# EAGLE library part CY7C1069AV33Z (library memory-sram)
2M x 8 Static RAM Source: CYPRESS cy7c1069av33_8.pdf
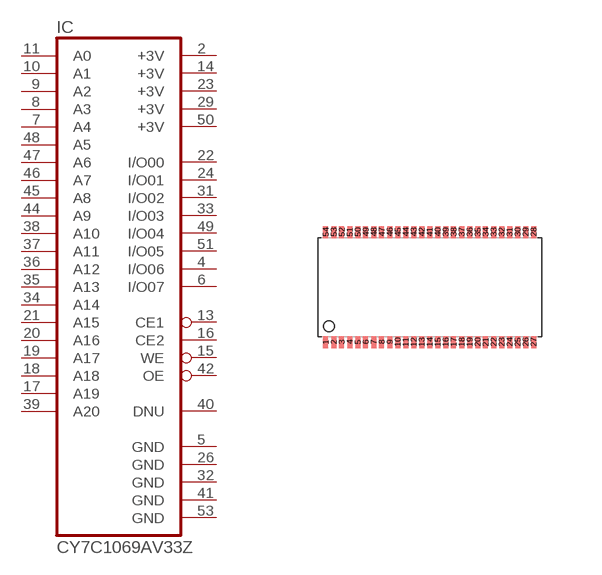
[diagram p4: symbol with the pads of TSOPII-54; footprint TSOPII-54]

Designator prefix IC

## CY7C1069AV33Z  [TSOPII-54]
2  +3V  pwr
4  I/O06
5  GND  pwr
6  I/O07
7  A4  in
8  A3  in
9  A2  in
10  A1  in
11  A0  in
13  CE1  in
14  +3V  pwr
15  WE  in
16  CE2  in
17  A19  in
18  A18  in
19  A17  in
20  A16  in
21  A15  in
22  I/O00
23  +3V  pwr
24  I/O01
26  GND  pwr
29  +3V  pwr
31  I/O02
32  GND  pwr
33  I/O03
34  A14  in
35  A13  in
36  A12  in
37  A11  in
38  A10  in
39  A20  in
40  DNU  pas
41  GND  pwr
42  OE  in
44  A9  in
45  A8  in
46  A7  in
47  A6  in
48  A5  in
49  I/O04
50  +3V  pwr
51  I/O05
53  GND  pwr

## Footprint TSOPII-54 (pad centres in mm)
54-pin TSOP II (51-85160) Source: CYPRESS cy7c1069av33_8.pdf
smd 0.125 x 0.3: 1 -2.6,-1.376; 2 -2.4,-1.376; 3 -2.2,-1.376; 4 -2,-1.376; 5 -1.8,-1.376; 6 -1.6,-1.376; 7 -1.4,-1.376; 8 -1.2,-1.376; 9 -1,-1.376; 10 -0.8,-1.376; 11 -0.6,-1.376; 12 -0.4,-1.376; 13 -0.2,-1.376; 14 0,-1.376; 15 0.2,-1.376; 16 0.4,-1.376; 17 0.6,-1.376; 18 0.8,-1.376; 19 1,-1.376; 20 1.2,-1.376; 21 1.4,-1.376; 22 1.6,-1.376; 23 1.8,-1.376; 24 2,-1.376; 25 2.2,-1.376; 26 2.4,-1.376; 27 2.6,-1.376; 28 2.6,1.376; 29 2.4,1.376; 30 2.2,1.376; 31 2,1.376; 32 1.8,1.376; 33 1.6,1.376; 34 1.4,1.376; 35 1.2,1.376; 36 1,1.376; 37 0.8,1.376; 38 0.6,1.376; 39 0.4,1.376; 40 0.2,1.376; 41 0,1.376; 42 -0.2,1.376; 43 -0.4,1.376; 44 -0.6,1.376; 45 -0.8,1.376; 46 -1,1.376; 47 -1.2,1.376; 48 -1.4,1.376; 49 -1.6,1.376; 50 -1.8,1.376; 51 -2,1.376; 52 -2.2,1.376; 53 -2.4,1.376; 54 -2.6,1.376